# Altium footprint library Connector_PinHeader_1.00mm.PcbLib: 278 footprints (part 17 of 18)
Each footprint in its own frame and in the unit in brackets; x right, y up, seen from the top. Pads: shape width x height; smd on the part's side, far side on the other; paste and mask are expansions set on the pad; w line width, h text height; cw(c..) or ccw(c..) is an arc to the next point about the centre after c.
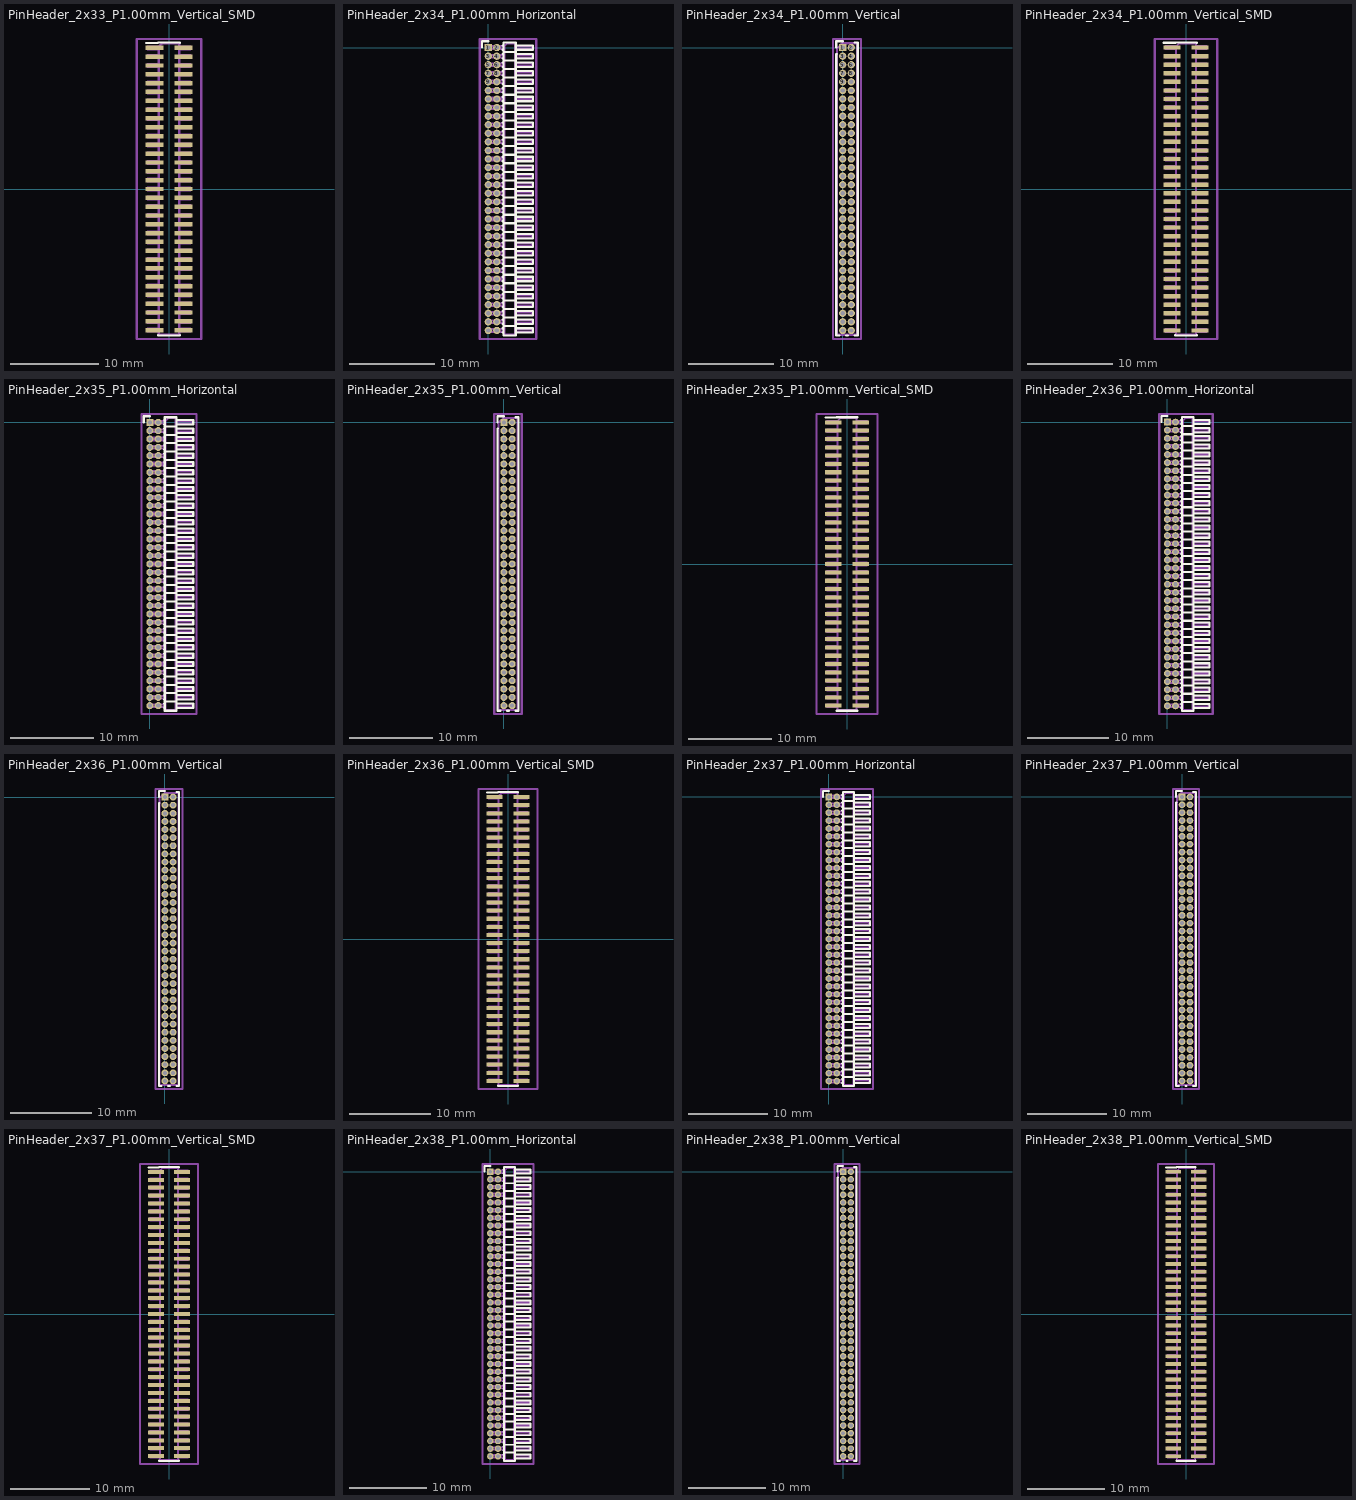
[diagram p16: the footprints below, top view; thin cyan lines are the x and y axes]

## PinHeader_2x33_P1.00mm_Vertical_SMD [mm]
pads (66):
  rect 2x0.5 smd: 1(-1.65,16) 2(1.65,16) 3(-1.65,15) 4(1.65,15) 5(-1.65,14) 6(1.65,14) 7(-1.65,13) 8(1.65,13) 9(-1.65,12) 10(1.65,12) 11(-1.65,11) 12(1.65,11) 13(-1.65,10) 14(1.65,10) 15(-1.65,9) 16(1.65,9) 17(-1.65,8) 18(1.65,8) 19(-1.65,7) 20(1.65,7) 21(-1.65,6) 22(1.65,6) 23(-1.65,5) 24(1.65,5) 25(-1.65,4) 26(1.65,4) 27(-1.65,3) 28(1.65,3) 29(-1.65,2) 30(1.65,2) 31(-1.65,1) 32(1.65,1) 33(-1.65,0) 34(1.65,0) 35(-1.65,-1) 36(1.65,-1) 37(-1.65,-2) 38(1.65,-2) 39(-1.65,-3) 40(1.65,-3) 41(-1.65,-4) 42(1.65,-4) 43(-1.65,-5) 44(1.65,-5) 45(-1.65,-6) 46(1.65,-6) 47(-1.65,-7) 48(1.65,-7) 49(-1.65,-8) 50(1.65,-8) 51(-1.65,-9) 52(1.65,-9) 53(-1.65,-10) 54(1.65,-10) 55(-1.65,-11) 56(1.65,-11) 57(-1.65,-12) 58(1.65,-12) 59(-1.65,-13) 60(1.65,-13) 61(-1.65,-14) 62(1.65,-14) 63(-1.65,-15) 64(1.65,-15) 65(-1.65,-16) 66(1.65,-16)
F.SilkS:
  lines w0.254: -2.59,16.56 -1.26,16.56 -1.26,16.61 1.26,16.61 1.26,16.56 ; -1.26,-16.56 -1.26,-16.61 1.26,-16.61 1.26,-16.56
Top Assembly:
  drawing of 203 lines, arcs and shapes, not listed
  text "'.Designator'" at 0.84,-4.047 h1
Top Courtyard:
  lines w0.254: -3.65,-17 3.65,-17 3.65,17 -3.65,17 -3.65,-17
Top Designator:
  text ".Designator" at -7.618,-0.508 h1.52

## PinHeader_2x34_P1.00mm_Horizontal [mm]
pads (68):
  rect 0.85x0.85 hole 0.5: 1(0,0)
  round 0.85 hole 0.5: 2(1,0) 3(0,-1) 4(1,-1) 5(0,-2) 6(1,-2) 7(0,-3) 8(1,-3) 9(0,-4) 10(1,-4) 11(0,-5) 12(1,-5) 13(0,-6) 14(1,-6) 15(0,-7) 16(1,-7) 17(0,-8) 18(1,-8) 19(0,-9) 20(1,-9) 21(0,-10) 22(1,-10) 23(0,-11) 24(1,-11) 25(0,-12) 26(1,-12) 27(0,-13) 28(1,-13) 29(0,-14) 30(1,-14) 31(0,-15) 32(1,-15) 33(0,-16) 34(1,-16) 35(0,-17) 36(1,-17) 37(0,-18) 38(1,-18) 39(0,-19) 40(1,-19) 41(0,-20) 42(1,-20) 43(0,-21) 44(1,-21) 45(0,-22) 46(1,-22) 47(0,-23) 48(1,-23) 49(0,-24) 50(1,-24) 51(0,-25) 52(1,-25) 53(0,-26) 54(1,-26) 55(0,-27) 56(1,-27) 57(0,-28) 58(1,-28) 59(0,-29) 60(1,-29) 61(0,-30) 62(1,-30) 63(0,-31) 64(1,-31) 65(0,-32) 66(1,-32) 67(0,-33) 68(1,-33)
F.SilkS:
  drawing of 210 lines, arcs and shapes, not listed
Top Assembly:
  drawing of 209 lines, arcs and shapes, not listed
  text "'.Designator'" at 3.105,-19.414 h0.72
Top Courtyard:
  lines w0.254: -1,-34 5.6,-34 5.6,1 -1,1 -1,-34
Top Designator:
  text ".Designator" at -5.318,-17.008 h1.52

## PinHeader_2x34_P1.00mm_Vertical [mm]
pads (68):
  rect 0.85x0.85 hole 0.5: 1(0,0)
  round 0.85 hole 0.5: 2(1,0) 3(0,-1) 4(1,-1) 5(0,-2) 6(1,-2) 7(0,-3) 8(1,-3) 9(0,-4) 10(1,-4) 11(0,-5) 12(1,-5) 13(0,-6) 14(1,-6) 15(0,-7) 16(1,-7) 17(0,-8) 18(1,-8) 19(0,-9) 20(1,-9) 21(0,-10) 22(1,-10) 23(0,-11) 24(1,-11) 25(0,-12) 26(1,-12) 27(0,-13) 28(1,-13) 29(0,-14) 30(1,-14) 31(0,-15) 32(1,-15) 33(0,-16) 34(1,-16) 35(0,-17) 36(1,-17) 37(0,-18) 38(1,-18) 39(0,-19) 40(1,-19) 41(0,-20) 42(1,-20) 43(0,-21) 44(1,-21) 45(0,-22) 46(1,-22) 47(0,-23) 48(1,-23) 49(0,-24) 50(1,-24) 51(0,-25) 52(1,-25) 53(0,-26) 54(1,-26) 55(0,-27) 56(1,-27) 57(0,-28) 58(1,-28) 59(0,-29) 60(1,-29) 61(0,-30) 62(1,-30) 63(0,-31) 64(1,-31) 65(0,-32) 66(1,-32) 67(0,-33) 68(1,-33)
F.SilkS:
  lines w0.254: -0.76,0 -0.76,0.735 0,0.735 ; -0.686,-0.735 -0.76,-0.735 -0.76,-33.61 -0.41,-33.61 ; 0.41,-33.61 0.59,-33.61 ; 1.41,-33.61 1.76,-33.61 1.76,0.61 1.41,0.61
Top Assembly:
  lines w0.254: -0.65,-33.5 1.65,-33.5 1.65,0.5 -0.075,0.5 -0.65,-0.075 -0.65,-33.5
  text "'.Designator'" at 1.34,-20.547 h1
Top Courtyard:
  lines w0.254: -1.15,-34 2.15,-34 2.15,1 -1.15,1 -1.15,-34
Top Designator:
  text ".Designator" at -7.118,-17.008 h1.52

## PinHeader_2x34_P1.00mm_Vertical_SMD [mm]
pads (68):
  rect 2x0.5 smd: 1(-1.65,16.5) 2(1.65,16.5) 3(-1.65,15.5) 4(1.65,15.5) 5(-1.65,14.5) 6(1.65,14.5) 7(-1.65,13.5) 8(1.65,13.5) 9(-1.65,12.5) 10(1.65,12.5) 11(-1.65,11.5) 12(1.65,11.5) 13(-1.65,10.5) 14(1.65,10.5) 15(-1.65,9.5) 16(1.65,9.5) 17(-1.65,8.5) 18(1.65,8.5) 19(-1.65,7.5) 20(1.65,7.5) 21(-1.65,6.5) 22(1.65,6.5) 23(-1.65,5.5) 24(1.65,5.5) 25(-1.65,4.5) 26(1.65,4.5) 27(-1.65,3.5) 28(1.65,3.5) 29(-1.65,2.5) 30(1.65,2.5) 31(-1.65,1.5) 32(1.65,1.5) 33(-1.65,0.5) 34(1.65,0.5) 35(-1.65,-0.5) 36(1.65,-0.5) 37(-1.65,-1.5) 38(1.65,-1.5) 39(-1.65,-2.5) 40(1.65,-2.5) 41(-1.65,-3.5) 42(1.65,-3.5) 43(-1.65,-4.5) 44(1.65,-4.5) 45(-1.65,-5.5) 46(1.65,-5.5) 47(-1.65,-6.5) 48(1.65,-6.5) 49(-1.65,-7.5) 50(1.65,-7.5) 51(-1.65,-8.5) 52(1.65,-8.5) 53(-1.65,-9.5) 54(1.65,-9.5) 55(-1.65,-10.5) 56(1.65,-10.5) 57(-1.65,-11.5) 58(1.65,-11.5) 59(-1.65,-12.5) 60(1.65,-12.5) 61(-1.65,-13.5) 62(1.65,-13.5) 63(-1.65,-14.5) 64(1.65,-14.5) 65(-1.65,-15.5) 66(1.65,-15.5) 67(-1.65,-16.5) 68(1.65,-16.5)
F.SilkS:
  lines w0.254: -2.59,17.06 -1.26,17.06 -1.26,17.11 1.26,17.11 1.26,17.06 ; -1.26,-17.06 -1.26,-17.11 1.26,-17.11 1.26,-17.06
Top Assembly:
  drawing of 209 lines, arcs and shapes, not listed
  text "'.Designator'" at 0.84,-4.047 h1
Top Courtyard:
  lines w0.254: -3.65,-17.5 3.65,-17.5 3.65,17.5 -3.65,17.5 -3.65,-17.5
Top Designator:
  text ".Designator" at -7.618,-0.508 h1.52

## PinHeader_2x35_P1.00mm_Horizontal [mm]
pads (70):
  rect 0.85x0.85 hole 0.5: 1(0,0)
  round 0.85 hole 0.5: 2(1,0) 3(0,-1) 4(1,-1) 5(0,-2) 6(1,-2) 7(0,-3) 8(1,-3) 9(0,-4) 10(1,-4) 11(0,-5) 12(1,-5) 13(0,-6) 14(1,-6) 15(0,-7) 16(1,-7) 17(0,-8) 18(1,-8) 19(0,-9) 20(1,-9) 21(0,-10) 22(1,-10) 23(0,-11) 24(1,-11) 25(0,-12) 26(1,-12) 27(0,-13) 28(1,-13) 29(0,-14) 30(1,-14) 31(0,-15) 32(1,-15) 33(0,-16) 34(1,-16) 35(0,-17) 36(1,-17) 37(0,-18) 38(1,-18) 39(0,-19) 40(1,-19) 41(0,-20) 42(1,-20) 43(0,-21) 44(1,-21) 45(0,-22) 46(1,-22) 47(0,-23) 48(1,-23) 49(0,-24) 50(1,-24) 51(0,-25) 52(1,-25) 53(0,-26) 54(1,-26) 55(0,-27) 56(1,-27) 57(0,-28) 58(1,-28) 59(0,-29) 60(1,-29) 61(0,-30) 62(1,-30) 63(0,-31) 64(1,-31) 65(0,-32) 66(1,-32) 67(0,-33) 68(1,-33) 69(0,-34) 70(1,-34)
F.SilkS:
  drawing of 216 lines, arcs and shapes, not listed
Top Assembly:
  drawing of 215 lines, arcs and shapes, not listed
  text "'.Designator'" at 3.105,-19.914 h0.72
Top Courtyard:
  lines w0.254: -1,-35 5.6,-35 5.6,1 -1,1 -1,-35
Top Designator:
  text ".Designator" at -5.318,-17.508 h1.52

## PinHeader_2x35_P1.00mm_Vertical [mm]
pads (70):
  rect 0.85x0.85 hole 0.5: 1(0,0)
  round 0.85 hole 0.5: 2(1,0) 3(0,-1) 4(1,-1) 5(0,-2) 6(1,-2) 7(0,-3) 8(1,-3) 9(0,-4) 10(1,-4) 11(0,-5) 12(1,-5) 13(0,-6) 14(1,-6) 15(0,-7) 16(1,-7) 17(0,-8) 18(1,-8) 19(0,-9) 20(1,-9) 21(0,-10) 22(1,-10) 23(0,-11) 24(1,-11) 25(0,-12) 26(1,-12) 27(0,-13) 28(1,-13) 29(0,-14) 30(1,-14) 31(0,-15) 32(1,-15) 33(0,-16) 34(1,-16) 35(0,-17) 36(1,-17) 37(0,-18) 38(1,-18) 39(0,-19) 40(1,-19) 41(0,-20) 42(1,-20) 43(0,-21) 44(1,-21) 45(0,-22) 46(1,-22) 47(0,-23) 48(1,-23) 49(0,-24) 50(1,-24) 51(0,-25) 52(1,-25) 53(0,-26) 54(1,-26) 55(0,-27) 56(1,-27) 57(0,-28) 58(1,-28) 59(0,-29) 60(1,-29) 61(0,-30) 62(1,-30) 63(0,-31) 64(1,-31) 65(0,-32) 66(1,-32) 67(0,-33) 68(1,-33) 69(0,-34) 70(1,-34)
F.SilkS:
  lines w0.254: -0.76,0 -0.76,0.735 0,0.735 ; -0.686,-0.735 -0.76,-0.735 -0.76,-34.61 -0.41,-34.61 ; 0.41,-34.61 0.59,-34.61 ; 1.41,-34.61 1.76,-34.61 1.76,0.61 1.41,0.61
Top Assembly:
  lines w0.254: -0.65,-34.5 1.65,-34.5 1.65,0.5 -0.075,0.5 -0.65,-0.075 -0.65,-34.5
  text "'.Designator'" at 1.34,-21.047 h1
Top Courtyard:
  lines w0.254: -1.15,-35 2.15,-35 2.15,1 -1.15,1 -1.15,-35
Top Designator:
  text ".Designator" at -7.118,-17.508 h1.52

## PinHeader_2x35_P1.00mm_Vertical_SMD [mm]
pads (70):
  rect 2x0.5 smd: 1(-1.65,17) 2(1.65,17) 3(-1.65,16) 4(1.65,16) 5(-1.65,15) 6(1.65,15) 7(-1.65,14) 8(1.65,14) 9(-1.65,13) 10(1.65,13) 11(-1.65,12) 12(1.65,12) 13(-1.65,11) 14(1.65,11) 15(-1.65,10) 16(1.65,10) 17(-1.65,9) 18(1.65,9) 19(-1.65,8) 20(1.65,8) 21(-1.65,7) 22(1.65,7) 23(-1.65,6) 24(1.65,6) 25(-1.65,5) 26(1.65,5) 27(-1.65,4) 28(1.65,4) 29(-1.65,3) 30(1.65,3) 31(-1.65,2) 32(1.65,2) 33(-1.65,1) 34(1.65,1) 35(-1.65,0) 36(1.65,0) 37(-1.65,-1) 38(1.65,-1) 39(-1.65,-2) 40(1.65,-2) 41(-1.65,-3) 42(1.65,-3) 43(-1.65,-4) 44(1.65,-4) 45(-1.65,-5) 46(1.65,-5) 47(-1.65,-6) 48(1.65,-6) 49(-1.65,-7) 50(1.65,-7) 51(-1.65,-8) 52(1.65,-8) 53(-1.65,-9) 54(1.65,-9) 55(-1.65,-10) 56(1.65,-10) 57(-1.65,-11) 58(1.65,-11) 59(-1.65,-12) 60(1.65,-12) 61(-1.65,-13) 62(1.65,-13) 63(-1.65,-14) 64(1.65,-14) 65(-1.65,-15) 66(1.65,-15) 67(-1.65,-16) 68(1.65,-16) 69(-1.65,-17) 70(1.65,-17)
F.SilkS:
  lines w0.254: -2.59,17.56 -1.26,17.56 -1.26,17.61 1.26,17.61 1.26,17.56 ; -1.26,-17.56 -1.26,-17.61 1.26,-17.61 1.26,-17.56
Top Assembly:
  drawing of 215 lines, arcs and shapes, not listed
  text "'.Designator'" at 0.84,-4.047 h1
Top Courtyard:
  lines w0.254: -3.65,-18 3.65,-18 3.65,18 -3.65,18 -3.65,-18
Top Designator:
  text ".Designator" at -7.618,-0.508 h1.52

## PinHeader_2x36_P1.00mm_Horizontal [mm]
pads (72):
  rect 0.85x0.85 hole 0.5: 1(0,0)
  round 0.85 hole 0.5: 2(1,0) 3(0,-1) 4(1,-1) 5(0,-2) 6(1,-2) 7(0,-3) 8(1,-3) 9(0,-4) 10(1,-4) 11(0,-5) 12(1,-5) 13(0,-6) 14(1,-6) 15(0,-7) 16(1,-7) 17(0,-8) 18(1,-8) 19(0,-9) 20(1,-9) 21(0,-10) 22(1,-10) 23(0,-11) 24(1,-11) 25(0,-12) 26(1,-12) 27(0,-13) 28(1,-13) 29(0,-14) 30(1,-14) 31(0,-15) 32(1,-15) 33(0,-16) 34(1,-16) 35(0,-17) 36(1,-17) 37(0,-18) 38(1,-18) 39(0,-19) 40(1,-19) 41(0,-20) 42(1,-20) 43(0,-21) 44(1,-21) 45(0,-22) 46(1,-22) 47(0,-23) 48(1,-23) 49(0,-24) 50(1,-24) 51(0,-25) 52(1,-25) 53(0,-26) 54(1,-26) 55(0,-27) 56(1,-27) 57(0,-28) 58(1,-28) 59(0,-29) 60(1,-29) 61(0,-30) 62(1,-30) 63(0,-31) 64(1,-31) 65(0,-32) 66(1,-32) 67(0,-33) 68(1,-33) 69(0,-34) 70(1,-34) 71(0,-35) 72(1,-35)
F.SilkS:
  drawing of 222 lines, arcs and shapes, not listed
Top Assembly:
  drawing of 221 lines, arcs and shapes, not listed
  text "'.Designator'" at 3.105,-20.414 h0.72
Top Courtyard:
  lines w0.254: -1,-36 5.6,-36 5.6,1 -1,1 -1,-36
Top Designator:
  text ".Designator" at -5.318,-18.008 h1.52

## PinHeader_2x36_P1.00mm_Vertical [mm]
pads (72):
  rect 0.85x0.85 hole 0.5: 1(0,0)
  round 0.85 hole 0.5: 2(1,0) 3(0,-1) 4(1,-1) 5(0,-2) 6(1,-2) 7(0,-3) 8(1,-3) 9(0,-4) 10(1,-4) 11(0,-5) 12(1,-5) 13(0,-6) 14(1,-6) 15(0,-7) 16(1,-7) 17(0,-8) 18(1,-8) 19(0,-9) 20(1,-9) 21(0,-10) 22(1,-10) 23(0,-11) 24(1,-11) 25(0,-12) 26(1,-12) 27(0,-13) 28(1,-13) 29(0,-14) 30(1,-14) 31(0,-15) 32(1,-15) 33(0,-16) 34(1,-16) 35(0,-17) 36(1,-17) 37(0,-18) 38(1,-18) 39(0,-19) 40(1,-19) 41(0,-20) 42(1,-20) 43(0,-21) 44(1,-21) 45(0,-22) 46(1,-22) 47(0,-23) 48(1,-23) 49(0,-24) 50(1,-24) 51(0,-25) 52(1,-25) 53(0,-26) 54(1,-26) 55(0,-27) 56(1,-27) 57(0,-28) 58(1,-28) 59(0,-29) 60(1,-29) 61(0,-30) 62(1,-30) 63(0,-31) 64(1,-31) 65(0,-32) 66(1,-32) 67(0,-33) 68(1,-33) 69(0,-34) 70(1,-34) 71(0,-35) 72(1,-35)
F.SilkS:
  lines w0.254: -0.76,0 -0.76,0.735 0,0.735 ; -0.686,-0.735 -0.76,-0.735 -0.76,-35.61 -0.41,-35.61 ; 0.41,-35.61 0.59,-35.61 ; 1.41,-35.61 1.76,-35.61 1.76,0.61 1.41,0.61
Top Assembly:
  lines w0.254: -0.65,-35.5 1.65,-35.5 1.65,0.5 -0.075,0.5 -0.65,-0.075 -0.65,-35.5
  text "'.Designator'" at 1.34,-21.547 h1
Top Courtyard:
  lines w0.254: -1.15,-36 2.15,-36 2.15,1 -1.15,1 -1.15,-36
Top Designator:
  text ".Designator" at -7.118,-18.008 h1.52

## PinHeader_2x36_P1.00mm_Vertical_SMD [mm]
pads (72):
  rect 2x0.5 smd: 1(-1.65,17.5) 2(1.65,17.5) 3(-1.65,16.5) 4(1.65,16.5) 5(-1.65,15.5) 6(1.65,15.5) 7(-1.65,14.5) 8(1.65,14.5) 9(-1.65,13.5) 10(1.65,13.5) 11(-1.65,12.5) 12(1.65,12.5) 13(-1.65,11.5) 14(1.65,11.5) 15(-1.65,10.5) 16(1.65,10.5) 17(-1.65,9.5) 18(1.65,9.5) 19(-1.65,8.5) 20(1.65,8.5) 21(-1.65,7.5) 22(1.65,7.5) 23(-1.65,6.5) 24(1.65,6.5) 25(-1.65,5.5) 26(1.65,5.5) 27(-1.65,4.5) 28(1.65,4.5) 29(-1.65,3.5) 30(1.65,3.5) 31(-1.65,2.5) 32(1.65,2.5) 33(-1.65,1.5) 34(1.65,1.5) 35(-1.65,0.5) 36(1.65,0.5) 37(-1.65,-0.5) 38(1.65,-0.5) 39(-1.65,-1.5) 40(1.65,-1.5) 41(-1.65,-2.5) 42(1.65,-2.5) 43(-1.65,-3.5) 44(1.65,-3.5) 45(-1.65,-4.5) 46(1.65,-4.5) 47(-1.65,-5.5) 48(1.65,-5.5) 49(-1.65,-6.5) 50(1.65,-6.5) 51(-1.65,-7.5) 52(1.65,-7.5) 53(-1.65,-8.5) 54(1.65,-8.5) 55(-1.65,-9.5) 56(1.65,-9.5) 57(-1.65,-10.5) 58(1.65,-10.5) 59(-1.65,-11.5) 60(1.65,-11.5) 61(-1.65,-12.5) 62(1.65,-12.5) 63(-1.65,-13.5) 64(1.65,-13.5) 65(-1.65,-14.5) 66(1.65,-14.5) 67(-1.65,-15.5) 68(1.65,-15.5) 69(-1.65,-16.5) 70(1.65,-16.5) 71(-1.65,-17.5) 72(1.65,-17.5)
F.SilkS:
  lines w0.254: -2.59,18.06 -1.26,18.06 -1.26,18.11 1.26,18.11 1.26,18.06 ; -1.26,-18.06 -1.26,-18.11 1.26,-18.11 1.26,-18.06
Top Assembly:
  drawing of 221 lines, arcs and shapes, not listed
  text "'.Designator'" at 0.84,-4.047 h1
Top Courtyard:
  lines w0.254: -3.65,-18.5 3.65,-18.5 3.65,18.5 -3.65,18.5 -3.65,-18.5
Top Designator:
  text ".Designator" at -7.618,-0.508 h1.52

## PinHeader_2x37_P1.00mm_Horizontal [mm]
pads (74):
  rect 0.85x0.85 hole 0.5: 1(0,0)
  round 0.85 hole 0.5: 2(1,0) 3(0,-1) 4(1,-1) 5(0,-2) 6(1,-2) 7(0,-3) 8(1,-3) 9(0,-4) 10(1,-4) 11(0,-5) 12(1,-5) 13(0,-6) 14(1,-6) 15(0,-7) 16(1,-7) 17(0,-8) 18(1,-8) 19(0,-9) 20(1,-9) 21(0,-10) 22(1,-10) 23(0,-11) 24(1,-11) 25(0,-12) 26(1,-12) 27(0,-13) 28(1,-13) 29(0,-14) 30(1,-14) 31(0,-15) 32(1,-15) 33(0,-16) 34(1,-16) 35(0,-17) 36(1,-17) 37(0,-18) 38(1,-18) 39(0,-19) 40(1,-19) 41(0,-20) 42(1,-20) 43(0,-21) 44(1,-21) 45(0,-22) 46(1,-22) 47(0,-23) 48(1,-23) 49(0,-24) 50(1,-24) 51(0,-25) 52(1,-25) 53(0,-26) 54(1,-26) 55(0,-27) 56(1,-27) 57(0,-28) 58(1,-28) 59(0,-29) 60(1,-29) 61(0,-30) 62(1,-30) 63(0,-31) 64(1,-31) 65(0,-32) 66(1,-32) 67(0,-33) 68(1,-33) 69(0,-34) 70(1,-34) 71(0,-35) 72(1,-35) 73(0,-36) 74(1,-36)
F.SilkS:
  drawing of 228 lines, arcs and shapes, not listed
Top Assembly:
  drawing of 227 lines, arcs and shapes, not listed
  text "'.Designator'" at 3.105,-20.914 h0.72
Top Courtyard:
  lines w0.254: -1,-37 5.6,-37 5.6,1 -1,1 -1,-37
Top Designator:
  text ".Designator" at -5.318,-18.508 h1.52

## PinHeader_2x37_P1.00mm_Vertical [mm]
pads (74):
  rect 0.85x0.85 hole 0.5: 1(0,0)
  round 0.85 hole 0.5: 2(1,0) 3(0,-1) 4(1,-1) 5(0,-2) 6(1,-2) 7(0,-3) 8(1,-3) 9(0,-4) 10(1,-4) 11(0,-5) 12(1,-5) 13(0,-6) 14(1,-6) 15(0,-7) 16(1,-7) 17(0,-8) 18(1,-8) 19(0,-9) 20(1,-9) 21(0,-10) 22(1,-10) 23(0,-11) 24(1,-11) 25(0,-12) 26(1,-12) 27(0,-13) 28(1,-13) 29(0,-14) 30(1,-14) 31(0,-15) 32(1,-15) 33(0,-16) 34(1,-16) 35(0,-17) 36(1,-17) 37(0,-18) 38(1,-18) 39(0,-19) 40(1,-19) 41(0,-20) 42(1,-20) 43(0,-21) 44(1,-21) 45(0,-22) 46(1,-22) 47(0,-23) 48(1,-23) 49(0,-24) 50(1,-24) 51(0,-25) 52(1,-25) 53(0,-26) 54(1,-26) 55(0,-27) 56(1,-27) 57(0,-28) 58(1,-28) 59(0,-29) 60(1,-29) 61(0,-30) 62(1,-30) 63(0,-31) 64(1,-31) 65(0,-32) 66(1,-32) 67(0,-33) 68(1,-33) 69(0,-34) 70(1,-34) 71(0,-35) 72(1,-35) 73(0,-36) 74(1,-36)
F.SilkS:
  lines w0.254: -0.76,0 -0.76,0.735 0,0.735 ; -0.686,-0.735 -0.76,-0.735 -0.76,-36.61 -0.41,-36.61 ; 0.41,-36.61 0.59,-36.61 ; 1.41,-36.61 1.76,-36.61 1.76,0.61 1.41,0.61
Top Assembly:
  lines w0.254: -0.65,-36.5 1.65,-36.5 1.65,0.5 -0.075,0.5 -0.65,-0.075 -0.65,-36.5
  text "'.Designator'" at 1.34,-22.047 h1
Top Courtyard:
  lines w0.254: -1.15,-37 2.15,-37 2.15,1 -1.15,1 -1.15,-37
Top Designator:
  text ".Designator" at -7.118,-18.508 h1.52

## PinHeader_2x37_P1.00mm_Vertical_SMD [mm]
pads (74):
  rect 2x0.5 smd: 1(-1.65,18) 2(1.65,18) 3(-1.65,17) 4(1.65,17) 5(-1.65,16) 6(1.65,16) 7(-1.65,15) 8(1.65,15) 9(-1.65,14) 10(1.65,14) 11(-1.65,13) 12(1.65,13) 13(-1.65,12) 14(1.65,12) 15(-1.65,11) 16(1.65,11) 17(-1.65,10) 18(1.65,10) 19(-1.65,9) 20(1.65,9) 21(-1.65,8) 22(1.65,8) 23(-1.65,7) 24(1.65,7) 25(-1.65,6) 26(1.65,6) 27(-1.65,5) 28(1.65,5) 29(-1.65,4) 30(1.65,4) 31(-1.65,3) 32(1.65,3) 33(-1.65,2) 34(1.65,2) 35(-1.65,1) 36(1.65,1) 37(-1.65,0) 38(1.65,0) 39(-1.65,-1) 40(1.65,-1) 41(-1.65,-2) 42(1.65,-2) 43(-1.65,-3) 44(1.65,-3) 45(-1.65,-4) 46(1.65,-4) 47(-1.65,-5) 48(1.65,-5) 49(-1.65,-6) 50(1.65,-6) 51(-1.65,-7) 52(1.65,-7) 53(-1.65,-8) 54(1.65,-8) 55(-1.65,-9) 56(1.65,-9) 57(-1.65,-10) 58(1.65,-10) 59(-1.65,-11) 60(1.65,-11) 61(-1.65,-12) 62(1.65,-12) 63(-1.65,-13) 64(1.65,-13) 65(-1.65,-14) 66(1.65,-14) 67(-1.65,-15) 68(1.65,-15) 69(-1.65,-16) 70(1.65,-16) 71(-1.65,-17) 72(1.65,-17) 73(-1.65,-18) 74(1.65,-18)
F.SilkS:
  lines w0.254: -2.59,18.56 -1.26,18.56 -1.26,18.61 1.26,18.61 1.26,18.56 ; -1.26,-18.56 -1.26,-18.61 1.26,-18.61 1.26,-18.56
Top Assembly:
  drawing of 227 lines, arcs and shapes, not listed
  text "'.Designator'" at 0.84,-4.047 h1
Top Courtyard:
  lines w0.254: -3.65,-19 3.65,-19 3.65,19 -3.65,19 -3.65,-19
Top Designator:
  text ".Designator" at -7.618,-0.508 h1.52

## PinHeader_2x38_P1.00mm_Horizontal [mm]
pads (76):
  rect 0.85x0.85 hole 0.5: 1(0,0)
  round 0.85 hole 0.5: 2(1,0) 3(0,-1) 4(1,-1) 5(0,-2) 6(1,-2) 7(0,-3) 8(1,-3) 9(0,-4) 10(1,-4) 11(0,-5) 12(1,-5) 13(0,-6) 14(1,-6) 15(0,-7) 16(1,-7) 17(0,-8) 18(1,-8) 19(0,-9) 20(1,-9) 21(0,-10) 22(1,-10) 23(0,-11) 24(1,-11) 25(0,-12) 26(1,-12) 27(0,-13) 28(1,-13) 29(0,-14) 30(1,-14) 31(0,-15) 32(1,-15) 33(0,-16) 34(1,-16) 35(0,-17) 36(1,-17) 37(0,-18) 38(1,-18) 39(0,-19) 40(1,-19) 41(0,-20) 42(1,-20) 43(0,-21) 44(1,-21) 45(0,-22) 46(1,-22) 47(0,-23) 48(1,-23) 49(0,-24) 50(1,-24) 51(0,-25) 52(1,-25) 53(0,-26) 54(1,-26) 55(0,-27) 56(1,-27) 57(0,-28) 58(1,-28) 59(0,-29) 60(1,-29) 61(0,-30) 62(1,-30) 63(0,-31) 64(1,-31) 65(0,-32) 66(1,-32) 67(0,-33) 68(1,-33) 69(0,-34) 70(1,-34) 71(0,-35) 72(1,-35) 73(0,-36) 74(1,-36) 75(0,-37) 76(1,-37)
F.SilkS:
  drawing of 234 lines, arcs and shapes, not listed
Top Assembly:
  drawing of 233 lines, arcs and shapes, not listed
  text "'.Designator'" at 3.105,-21.414 h0.72
Top Courtyard:
  lines w0.254: -1,-38 5.6,-38 5.6,1 -1,1 -1,-38
Top Designator:
  text ".Designator" at -5.318,-19.008 h1.52

## PinHeader_2x38_P1.00mm_Vertical [mm]
pads (76):
  rect 0.85x0.85 hole 0.5: 1(0,0)
  round 0.85 hole 0.5: 2(1,0) 3(0,-1) 4(1,-1) 5(0,-2) 6(1,-2) 7(0,-3) 8(1,-3) 9(0,-4) 10(1,-4) 11(0,-5) 12(1,-5) 13(0,-6) 14(1,-6) 15(0,-7) 16(1,-7) 17(0,-8) 18(1,-8) 19(0,-9) 20(1,-9) 21(0,-10) 22(1,-10) 23(0,-11) 24(1,-11) 25(0,-12) 26(1,-12) 27(0,-13) 28(1,-13) 29(0,-14) 30(1,-14) 31(0,-15) 32(1,-15) 33(0,-16) 34(1,-16) 35(0,-17) 36(1,-17) 37(0,-18) 38(1,-18) 39(0,-19) 40(1,-19) 41(0,-20) 42(1,-20) 43(0,-21) 44(1,-21) 45(0,-22) 46(1,-22) 47(0,-23) 48(1,-23) 49(0,-24) 50(1,-24) 51(0,-25) 52(1,-25) 53(0,-26) 54(1,-26) 55(0,-27) 56(1,-27) 57(0,-28) 58(1,-28) 59(0,-29) 60(1,-29) 61(0,-30) 62(1,-30) 63(0,-31) 64(1,-31) 65(0,-32) 66(1,-32) 67(0,-33) 68(1,-33) 69(0,-34) 70(1,-34) 71(0,-35) 72(1,-35) 73(0,-36) 74(1,-36) 75(0,-37) 76(1,-37)
F.SilkS:
  lines w0.254: -0.76,0 -0.76,0.735 0,0.735 ; -0.686,-0.735 -0.76,-0.735 -0.76,-37.61 -0.41,-37.61 ; 0.41,-37.61 0.59,-37.61 ; 1.41,-37.61 1.76,-37.61 1.76,0.61 1.41,0.61
Top Assembly:
  lines w0.254: -0.65,-37.5 1.65,-37.5 1.65,0.5 -0.075,0.5 -0.65,-0.075 -0.65,-37.5
  text "'.Designator'" at 1.34,-22.547 h1
Top Courtyard:
  lines w0.254: -1.15,-38 2.15,-38 2.15,1 -1.15,1 -1.15,-38
Top Designator:
  text ".Designator" at -7.118,-19.008 h1.52

## PinHeader_2x38_P1.00mm_Vertical_SMD [mm]
pads (76):
  rect 2x0.5 smd: 1(-1.65,18.5) 2(1.65,18.5) 3(-1.65,17.5) 4(1.65,17.5) 5(-1.65,16.5) 6(1.65,16.5) 7(-1.65,15.5) 8(1.65,15.5) 9(-1.65,14.5) 10(1.65,14.5) 11(-1.65,13.5) 12(1.65,13.5) 13(-1.65,12.5) 14(1.65,12.5) 15(-1.65,11.5) 16(1.65,11.5) 17(-1.65,10.5) 18(1.65,10.5) 19(-1.65,9.5) 20(1.65,9.5) 21(-1.65,8.5) 22(1.65,8.5) 23(-1.65,7.5) 24(1.65,7.5) 25(-1.65,6.5) 26(1.65,6.5) 27(-1.65,5.5) 28(1.65,5.5) 29(-1.65,4.5) 30(1.65,4.5) 31(-1.65,3.5) 32(1.65,3.5) 33(-1.65,2.5) 34(1.65,2.5) 35(-1.65,1.5) 36(1.65,1.5) 37(-1.65,0.5) 38(1.65,0.5) 39(-1.65,-0.5) 40(1.65,-0.5) 41(-1.65,-1.5) 42(1.65,-1.5) 43(-1.65,-2.5) 44(1.65,-2.5) 45(-1.65,-3.5) 46(1.65,-3.5) 47(-1.65,-4.5) 48(1.65,-4.5) 49(-1.65,-5.5) 50(1.65,-5.5) 51(-1.65,-6.5) 52(1.65,-6.5) 53(-1.65,-7.5) 54(1.65,-7.5) 55(-1.65,-8.5) 56(1.65,-8.5) 57(-1.65,-9.5) 58(1.65,-9.5) 59(-1.65,-10.5) 60(1.65,-10.5) 61(-1.65,-11.5) 62(1.65,-11.5) 63(-1.65,-12.5) 64(1.65,-12.5) 65(-1.65,-13.5) 66(1.65,-13.5) 67(-1.65,-14.5) 68(1.65,-14.5) 69(-1.65,-15.5) 70(1.65,-15.5) 71(-1.65,-16.5) 72(1.65,-16.5) 73(-1.65,-17.5) 74(1.65,-17.5) 75(-1.65,-18.5) 76(1.65,-18.5)
F.SilkS:
  lines w0.254: -2.59,19.06 -1.26,19.06 -1.26,19.11 1.26,19.11 1.26,19.06 ; -1.26,-19.06 -1.26,-19.11 1.26,-19.11 1.26,-19.06
Top Assembly:
  drawing of 233 lines, arcs and shapes, not listed
  text "'.Designator'" at 0.84,-4.047 h1
Top Courtyard:
  lines w0.254: -3.65,-19.5 3.65,-19.5 3.65,19.5 -3.65,19.5 -3.65,-19.5
Top Designator:
  text ".Designator" at -7.618,-0.508 h1.52